# Altium schematic symbol library ACPL-K63L.SchLib: 1 symbol
Pins are listed as number, name and electrical type; pins without a type are passive.

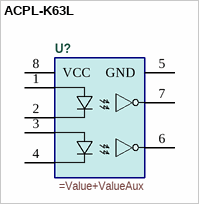
[diagram p0: symbol ACPL-K63L]

## ACPL-K63L
designator U?
=Description
pins: 1 ANODE, 2 CATHODE, 3 ANODE, 4 CATHODE, 5 GND, 6 OUTPUT, 7 OUTPUT, 8 VCC